# Altium schematic symbol library libysk_ic.SchLib: 6 symbols
Pins are listed as number, name and electrical type; pins without a type are passive.

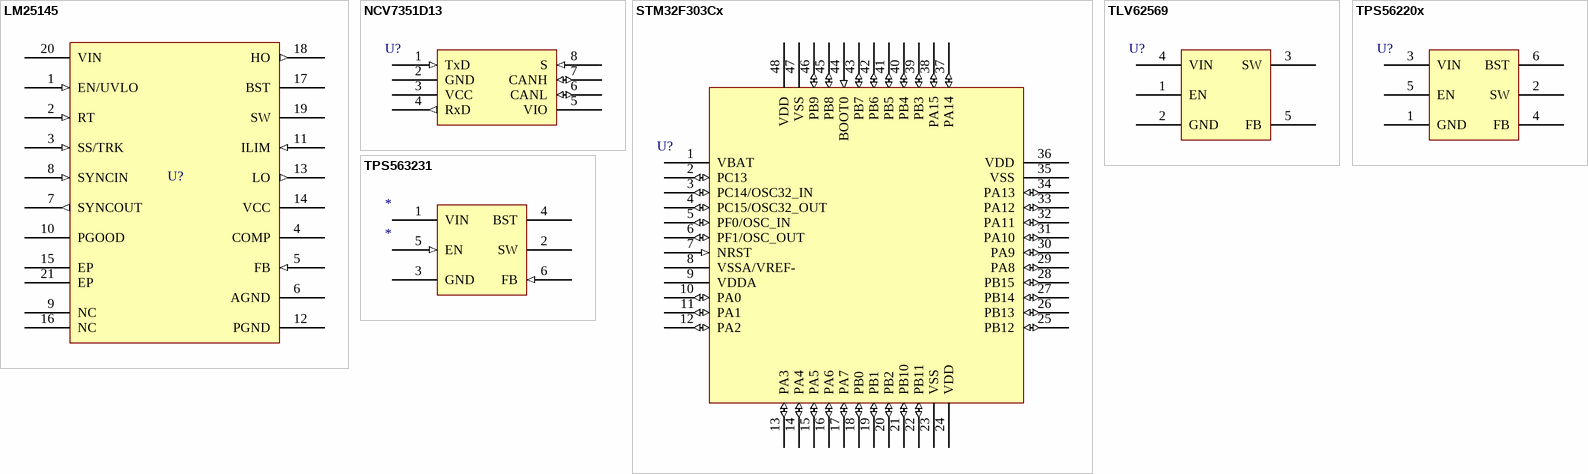
[diagram p0: symbols LM25145 to TPS563231]

## LM25145
designator U?
footprint RGY0020B_TI_N (QFN, 20-Leads, Body 3.50x4.50mm, Pitch 1.50mm/0.50mm, Thermal Pad 1.70x2.70mm, IPC Medium Density)
pins: 1 EN/UVLO (in), 2 RT (in), 3 SS/TRK (in), 4 COMP, 5 FB (in), 6 AGND (power), 7 SYNCOUT (out), 8 SYNCIN (in), 9 NC, 10 PGOOD (oc), 11 ILIM (in), 12 PGND (power), 13 LO (out), 14 VCC, 15 EP, 16 NC, 17 BST, 18 HO (out), 19 SW, 20 VIN (power), 21 EP

## NCV7351D13
designator U?  (value not drawn)
CAN Transceiver, VIO; Manufacturer 1: ON Semiconductor; Manufacturer Part Number 1: NCV7351D13
footprint SOIC-8N (SOIC, 8-Leads, Body 4.90x3.90mm, Pitch 1.27mm, IPC Medium Density)
pins: 1 TxD (in), 2 GND (power), 3 VCC (power), 4 RxD (out), 5 VIO (power), 6 CANL (io), 7 CANH (io), 8 S (in)

## STM32F303Cx
designator U?
MCU, ARM Cortex-M4, 32-bit
footprint LQFP48N (LQFP, 48-Leads, Body 7.00x7.00mm, Pitch 0.50mm, IPC Medium Density)
pins: 1 VBAT (power), 2 PC13 (io), 3 PC14/OSC32_IN (io), 4 PC15/OSC32_OUT (io), 5 PF0/OSC_IN (io), 6 PF1/OSC_OUT (io), 7 NRST (in), 8 VSSA/VREF- (power), 9 VDDA (power), 10 PA0 (io), 11 PA1 (io), 12 PA2 (io), 13 PA3 (io), 14 PA4 (io), 15 PA5 (io), 16 PA6 (io), 17 PA7 (io), 18 PB0 (io), 19 PB1 (io), 20 PB2 (io), 21 PB10 (io), 22 PB11 (io), 23 VSS (power), 24 VDD (power), 25 PB12 (io), 26 PB13 (io), 27 PB14 (io), 28 PB15 (io), 29 PA8 (io), 30 PA9 (io), 31 PA10 (io), 32 PA11 (io), 33 PA12 (io), 34 PA13 (io), 35 VSS (power), 36 VDD (power), 37 PA14 (io), 38 PA15 (io), 39 PB3 (io), 40 PB4 (io), 41 PB5 (io), 42 PB6 (io), 43 PB7 (io), 44 BOOT0 (in), 45 PB8 (io), 46 PB9 (io), 47 VSS (power), 48 VDD (power)

## TLV62569
designator U?  (value not drawn)
High Efficiency Synchronous Buck Converter, SOT-23-5; Manufacturer 1: Texas Instruments; Note: Pin-to-pin compatible devices are available from Asian manufacturers.; Manufacturer Part Number 1: TLV62569
footprint SOT-23-5N (SOT23, 5-Leads, Body 2.90x2.80mm, Pitch 0.95mm, IPC Medium Density)
pins: 1 EN, 2 GND, 3 SW, 4 VIN, 5 FB

## TPS56220x
designator U?
4.5-V to 17-V Input, 2-A Synchronous Step-Down Voltage Regulator /
footprint SOT-23-THIN-6N (SOT23, 6-Leads, Body 2.90x2.80mm, Pitch 0.95mm, IPC Medium Density)
pins: 1 GND, 2 SW, 3 VIN, 4 FB, 5 EN, 6 BST

## TPS563231
designator *
footprint DRL0006A_TI_N (SOTFL, 6-Leads, Body 1.60x1.60mm, Pitch 0.50mm, IPC Medium Density)
pins: 1 VIN (power), 2 SW, 3 GND (power), 4 BST, 5 EN (in), 6 FB (in)